# Altium integrated library Altium_WE-XTAL (rev25b).IntLib: 324 symbols (part 1 of 6)
Pins are listed as number, name and electrical type; pins without a type are passive.

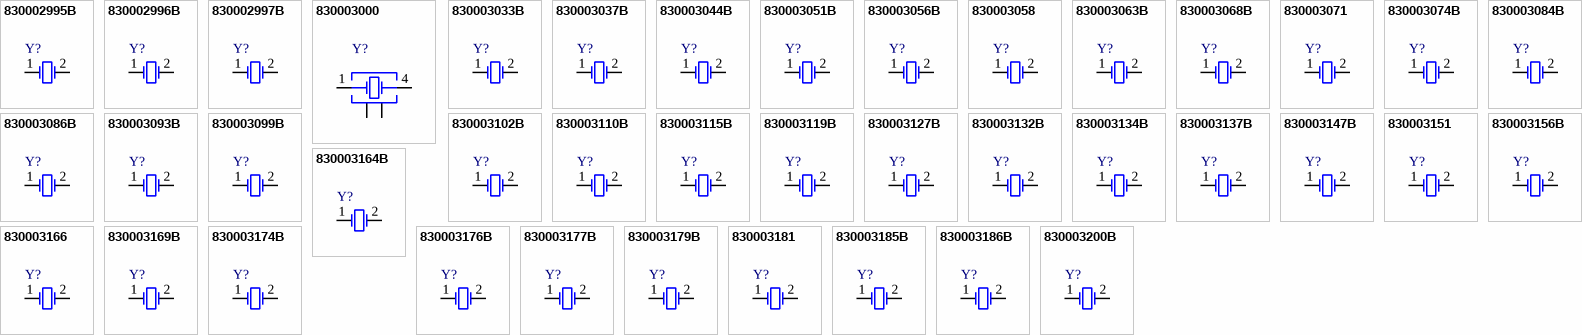
[diagram p0: symbols 830002995B to 830003200B]

## 830002995B
designator Y?, comment 32.768kHz  (value not drawn)
WE-XTAL Watch Crystal, WATCH, 32.768kHz, +/-20ppm; Manufacturer Part Number: 830002995B; Manufacturer: Wurth Elektronik; Load Capacitance: 12.5pF; Category: Crystals; Match Code: WE-XTAL; ComponentLink1Description: Website Link; ComponentLink1URL: https://www.we-online.com/redexpert/article/830002995B?ad; ComponentLink2Description: Datasheet Link; ComponentLink2URL: https://www.we-online.com/redexpert/spec/830002995B?ad; Mount: Through Hole; Min Operating Temperature: -40°C; Max Operating Temperature: 85°C; Packaging: Bulk; Case/Size Code: WATCH; Height: 8.2mm; Diameter: 3mm; Application: Real Time Clock; Frequency: 32.768kHz; Frequency Tolerance: +/-20ppm
footprint WE-XTAL_WATCH_D3H8.2
pins: 1 OSC1, 2 OSC2

## 830002996B
designator Y?, comment 32.768kHz  (value not drawn)
WE-XTAL Watch Crystal, WATCH, 32.768kHz, +/-15ppm; Manufacturer Part Number: 830002996B; Manufacturer: Wurth Elektronik; Load Capacitance: 12.5pF; Category: Crystals; Match Code: WE-XTAL; ComponentLink1Description: Website Link; ComponentLink1URL: https://www.we-online.com/redexpert/article/830002996B?ad; ComponentLink2Description: Datasheet Link; ComponentLink2URL: https://www.we-online.com/redexpert/spec/830002996B?ad; Mount: Through Hole; Min Operating Temperature: -40°C; Max Operating Temperature: 85°C; Packaging: Bulk; Case/Size Code: WATCH; Height: 8.2mm; Diameter: 3mm; Application: Real Time Clock; Frequency: 32.768kHz; Frequency Tolerance: +/-15ppm
footprint WE-XTAL_WATCH_D3H8.2
pins: 1 OSC1, 2 OSC2

## 830002997B
designator Y?, comment 32.768kHz  (value not drawn)
WE-XTAL Watch Crystal, WATCH, 32.768kHz, +/-20ppm; Manufacturer Part Number: 830002997B; Manufacturer: Wurth Elektronik; Load Capacitance: 12.5pF; Category: Crystals; Match Code: WE-XTAL; ComponentLink1Description: Website Link; ComponentLink1URL: https://www.we-online.com/redexpert/article/830002997B?ad; ComponentLink2Description: Datasheet Link; ComponentLink2URL: https://www.we-online.com/redexpert/spec/830002997B?ad; Mount: Through Hole; Min Operating Temperature: -40°C; Max Operating Temperature: 85°C; Packaging: Bulk; Case/Size Code: WATCH; Height: 6.2mm; Diameter: 2mm; Application: Real Time Clock; Frequency: 32.768kHz; Frequency Tolerance: +/-20ppm
footprint WE-XTAL_WATCH_D2H6.2
pins: 1 OSC1, 2 OSC2

## 830003000
designator Y?, comment 32.768kHz  (value not drawn)
WE-XTAL Watch Crystal, 85SMX, 32.768kHz, +/-20ppm; Manufacturer Part Number: 830003000; Manufacturer: Wurth Elektronik; Load Capacitance: 12.5pF; Category: Crystals; Match Code: WE-XTAL; ComponentLink1Description: Website Link; ComponentLink1URL: https://www.we-online.com/redexpert/article/830003000?ad; ComponentLink2Description: Datasheet Link; ComponentLink2URL: https://www.we-online.com/redexpert/spec/830003000?ad; Mount: Surface Mount; Min Operating Temperature: -40°C; Max Operating Temperature: 85°C; Packaging: Tape and Reel; Case/Size Code: 85SMX; Length: 8.7mm; Width: 3.7mm; Height: 2.5mm; Application: Real Time Clock; Frequency: 32.768kHz; Frequency Tolerance: +/-20ppm
footprint WE-XTAL_85SMX
pins: 1 Crystal, 2 GND, 3 GND, 4 Crystal

## 830003033B
designator Y?, comment 1.8432MHz  (value not drawn)
WE-XTAL Quartz Crystal, HC49, 1.8432MHz, +/-20ppm; Manufacturer Part Number: 830003033B; Manufacturer: Wurth Elektronik; Frequency Stability: 50ppm; Load Capacitance: 30pF; Category: Crystals; Match Code: WE-XTAL; ComponentLink1Description: Website Link; ComponentLink1URL: https://www.we-online.com/redexpert/article/830003033B?ad; ComponentLink2Description: Datasheet Link; ComponentLink2URL: https://www.we-online.com/redexpert/spec/830003033B?ad; Mount: Through Hole; Min Operating Temperature: -10°C; Max Operating Temperature: 60°C; Packaging: Bulk; Case/Size Code: HC49; Length: 11.05mm; Width: 4.7mm; Height: 13.49mm; Application: Processor, UART; Frequency: 1.8432MHz; Frequency Tolerance: +/-20ppm
footprint WE-XTAL_HC49
pins: 1 OSC1, 2 OSC2

## 830003037B
designator Y?, comment 2MHz  (value not drawn)
WE-XTAL Quartz Crystal, HC49, 2MHz, +/-50ppm; Manufacturer Part Number: 830003037B; Manufacturer: Wurth Elektronik; Frequency Stability: 100ppm; Load Capacitance: 20pF; Category: Crystals; Match Code: WE-XTAL; ComponentLink1Description: Website Link; ComponentLink1URL: https://www.we-online.com/redexpert/article/830003037B?ad; ComponentLink2Description: Datasheet Link; ComponentLink2URL: https://www.we-online.com/redexpert/spec/830003037B?ad; Mount: Through Hole; Min Operating Temperature: 0°C; Max Operating Temperature: 50°C; Packaging: Bulk; Case/Size Code: HC49; Length: 11.05mm; Width: 4.7mm; Height: 13.49mm; Application: Processor; Frequency: 2MHz; Frequency Tolerance: +/-50ppm
footprint WE-XTAL_HC49
pins: 1 OSC1, 2 OSC2

## 830003044B
designator Y?, comment 2.4576MHz  (value not drawn)
WE-XTAL Quartz Crystal, HC49, 2.4576MHz, +/-20ppm; Manufacturer Part Number: 830003044B; Manufacturer: Wurth Elektronik; Frequency Stability: 50ppm; Load Capacitance: 30pF; Category: Crystals; Match Code: WE-XTAL; ComponentLink1Description: Website Link; ComponentLink1URL: https://www.we-online.com/redexpert/article/830003044B?ad; ComponentLink2Description: Datasheet Link; ComponentLink2URL: https://www.we-online.com/redexpert/spec/830003044B?ad; Mount: Through Hole; Min Operating Temperature: -10°C; Max Operating Temperature: 60°C; Packaging: Bulk; Case/Size Code: HC49; Length: 11.05mm; Width: 4.7mm; Height: 13.49mm; Application: UART; Frequency: 2.4576MHz; Frequency Tolerance: +/-20ppm
footprint WE-XTAL_HC49
pins: 1 OSC1, 2 OSC2

## 830003051B
designator Y?, comment 3.2768MHz  (value not drawn)
WE-XTAL Quartz Crystal, HC49, 3.2768MHz, +/-20ppm; Manufacturer Part Number: 830003051B; Manufacturer: Wurth Elektronik; Frequency Stability: 30ppm; Load Capacitance: 12pF; Category: Crystals; Match Code: WE-XTAL; ComponentLink1Description: Website Link; ComponentLink1URL: https://www.we-online.com/redexpert/article/830003051B?ad; ComponentLink2Description: Datasheet Link; ComponentLink2URL: https://www.we-online.com/redexpert/spec/830003051B?ad; Mount: Through Hole; Min Operating Temperature: -10°C; Max Operating Temperature: 60°C; Packaging: Bulk; Case/Size Code: HC49; Length: 11.05mm; Width: 4.7mm; Height: 13.49mm; Application: Processor; Frequency: 3.2768MHz; Frequency Tolerance: +/-20ppm
footprint WE-XTAL_HC49
pins: 1 OSC1, 2 OSC2

## 830003056B
designator Y?, comment 3.579545MHz  (value not drawn)
WE-XTAL Quartz Crystal, HC49, 3.579545MHz, +/-20ppm; Manufacturer Part Number: 830003056B; Manufacturer: Wurth Elektronik; Frequency Stability: 50ppm; Load Capacitance: 20pF; Category: Crystals; Match Code: WE-XTAL; ComponentLink1Description: Website Link; ComponentLink1URL: https://www.we-online.com/redexpert/article/830003056B?ad; ComponentLink2Description: Datasheet Link; ComponentLink2URL: https://www.we-online.com/redexpert/spec/830003056B?ad; Mount: Through Hole; Min Operating Temperature: -10°C; Max Operating Temperature: 60°C; Packaging: Bulk; Case/Size Code: HC49; Length: 11.05mm; Width: 4.7mm; Height: 13.49mm; Application: Processor; Frequency: 3.579545MHz; Frequency Tolerance: +/-20ppm
footprint WE-XTAL_HC49
pins: 1 OSC1, 2 OSC2

## 830003058
designator Y?, comment 3.579545MHz  (value not drawn)
WE-XTAL Quartz Crystal, HC49/4HSMX, 3.579545MHz, +/-30ppm; Manufacturer Part Number: 830003058; Manufacturer: Wurth Elektronik; Frequency Stability: 50ppm; Load Capacitance: 16pF; Category: Crystals; Match Code: WE-XTAL; ComponentLink1Description: Website Link; ComponentLink1URL: https://www.we-online.com/redexpert/article/830003058?ad; ComponentLink2Description: Datasheet Link; ComponentLink2URL: https://www.we-online.com/redexpert/spec/830003058?ad; Mount: Surface Mount; Min Operating Temperature: -10°C; Max Operating Temperature: 60°C; Packaging: Tape and Reel; Case/Size Code: HC49/4HSMX; Length: 12.4mm; Width: 4.7mm; Height: 4.5mm; Application: Processor; Frequency: 3.579545MHz; Frequency Tolerance: +/-30ppm
footprint WE-XTAL_HC49/4HSMX
pins: 1 OSC1, 2 OSC2

## 830003063B
designator Y?, comment 3.579545MHz  (value not drawn)
WE-XTAL Quartz Crystal, HC49/4H, 3.579545MHz, +/-30ppm; Manufacturer Part Number: 830003063B; Manufacturer: Wurth Elektronik; Frequency Stability: 50ppm; Load Capacitance: 20pF; Category: Crystals; Match Code: WE-XTAL; ComponentLink1Description: Website Link; ComponentLink1URL: https://www.we-online.com/redexpert/article/830003063B?ad; ComponentLink2Description: Datasheet Link; ComponentLink2URL: https://www.we-online.com/redexpert/spec/830003063B?ad; Mount: Through Hole; Min Operating Temperature: -20°C; Max Operating Temperature: 70°C; Packaging: Bulk; Case/Size Code: HC49/4H; Length: 11.35mm; Width: 4.85mm; Height: 4mm; Application: Processor; Frequency: 3.579545MHz; Frequency Tolerance: +/-30ppm
footprint WE-XTAL_HC49/4H
pins: 1 OSC1, 2 OSC2

## 830003068B
designator Y?, comment 4MHz  (value not drawn)
WE-XTAL Quartz Crystal, HC49, 4MHz, +/-20ppm; Manufacturer Part Number: 830003068B; Manufacturer: Wurth Elektronik; Frequency Stability: 50ppm; Load Capacitance: 30pF; Category: Crystals; Match Code: WE-XTAL; ComponentLink1Description: Website Link; ComponentLink1URL: https://www.we-online.com/redexpert/article/830003068B?ad; ComponentLink2Description: Datasheet Link; ComponentLink2URL: https://www.we-online.com/redexpert/spec/830003068B?ad; Mount: Through Hole; Min Operating Temperature: -10°C; Max Operating Temperature: 60°C; Packaging: Bulk; Case/Size Code: HC49; Length: 11.05mm; Width: 4.7mm; Height: 13.49mm; Application: CAN, Processor; Frequency: 4MHz; Frequency Tolerance: +/-20ppm
footprint WE-XTAL_HC49
pins: 1 OSC1, 2 OSC2

## 830003071
designator Y?, comment 4MHz  (value not drawn)
WE-XTAL Quartz Crystal, HC49/4HSMX, 4MHz, +/-30ppm; Manufacturer Part Number: 830003071; Manufacturer: Wurth Elektronik; Frequency Stability: 50ppm; Load Capacitance: 16pF; Category: Crystals; Match Code: WE-XTAL; ComponentLink1Description: Website Link; ComponentLink1URL: https://www.we-online.com/redexpert/article/830003071?ad; ComponentLink2Description: Datasheet Link; ComponentLink2URL: https://www.we-online.com/redexpert/spec/830003071?ad; Mount: Surface Mount; Min Operating Temperature: -10°C; Max Operating Temperature: 60°C; Packaging: Tape and Reel; Case/Size Code: HC49/4HSMX; Length: 12.4mm; Width: 4.7mm; Height: 4.5mm; Application: CAN, Processor; Frequency: 4MHz; Frequency Tolerance: +/-30ppm
footprint WE-XTAL_HC49/4HSMX
pins: 1 OSC1, 2 OSC2

## 830003074B
designator Y?, comment 4MHz  (value not drawn)
WE-XTAL Quartz Crystal, HC49/4H, 4MHz, +/-20ppm; Manufacturer Part Number: 830003074B; Manufacturer: Wurth Elektronik; Frequency Stability: 50ppm; Load Capacitance: 30pF; Category: Crystals; Match Code: WE-XTAL; ComponentLink1Description: Website Link; ComponentLink1URL: https://www.we-online.com/redexpert/article/830003074B?ad; ComponentLink2Description: Datasheet Link; ComponentLink2URL: https://www.we-online.com/redexpert/spec/830003074B?ad; Mount: Through Hole; Min Operating Temperature: -10°C; Max Operating Temperature: 60°C; Packaging: Bulk; Case/Size Code: HC49/4H; Length: 11.35mm; Width: 4.85mm; Height: 4mm; Application: CAN, Processor; Frequency: 4MHz; Frequency Tolerance: +/-20ppm
footprint WE-XTAL_HC49/4H
pins: 1 OSC1, 2 OSC2

## 830003084B
designator Y?, comment 4.096MHz  (value not drawn)
WE-XTAL Quartz Crystal, HC49/4H, 4.096MHz, +/-30ppm; Manufacturer Part Number: 830003084B; Manufacturer: Wurth Elektronik; Frequency Stability: 50ppm; Load Capacitance: 30pF; Category: Crystals; Match Code: WE-XTAL; ComponentLink1Description: Website Link; ComponentLink1URL: https://www.we-online.com/redexpert/article/830003084B?ad; ComponentLink2Description: Datasheet Link; ComponentLink2URL: https://www.we-online.com/redexpert/spec/830003084B?ad; Mount: Through Hole; Min Operating Temperature: -10°C; Max Operating Temperature: 60°C; Packaging: Bulk; Case/Size Code: HC49/4H; Length: 11.35mm; Width: 4.85mm; Height: 4mm; Application: Processor; Frequency: 4.096MHz; Frequency Tolerance: +/-30ppm
footprint WE-XTAL_HC49/4H
pins: 1 OSC1, 2 OSC2

## 830003086B
designator Y?, comment 4.194304MHz  (value not drawn)
WE-XTAL Quartz Crystal, HC49, 4.194304MHz, +/-20ppm; Manufacturer Part Number: 830003086B; Manufacturer: Wurth Elektronik; Frequency Stability: 30ppm; Load Capacitance: 12pF; Category: Crystals; Match Code: WE-XTAL; ComponentLink1Description: Website Link; ComponentLink1URL: https://www.we-online.com/redexpert/article/830003086B?ad; ComponentLink2Description: Datasheet Link; ComponentLink2URL: https://www.we-online.com/redexpert/spec/830003086B?ad; Mount: Through Hole; Min Operating Temperature: -10°C; Max Operating Temperature: 60°C; Packaging: Bulk; Case/Size Code: HC49; Length: 11.05mm; Width: 4.7mm; Height: 13.49mm; Application: Real Time Clock; Frequency: 4.194304MHz; Frequency Tolerance: +/-20ppm
footprint WE-XTAL_HC49
pins: 1 OSC1, 2 OSC2

## 830003093B
designator Y?, comment 4.194304MHz  (value not drawn)
WE-XTAL Quartz Crystal, HC49/4H, 4.194304MHz, +/-30ppm; Manufacturer Part Number: 830003093B; Manufacturer: Wurth Elektronik; Frequency Stability: 50ppm; Load Capacitance: 12pF; Category: Crystals; Match Code: WE-XTAL; ComponentLink1Description: Website Link; ComponentLink1URL: https://www.we-online.com/redexpert/article/830003093B?ad; ComponentLink2Description: Datasheet Link; ComponentLink2URL: https://www.we-online.com/redexpert/spec/830003093B?ad; Mount: Through Hole; Min Operating Temperature: -10°C; Max Operating Temperature: 60°C; Packaging: Bulk; Case/Size Code: HC49/4H; Length: 11.35mm; Width: 4.85mm; Height: 4mm; Application: Real Time Clock; Frequency: 4.194304MHz; Frequency Tolerance: +/-30ppm
footprint WE-XTAL_HC49/4H
pins: 1 OSC1, 2 OSC2

## 830003099B
designator Y?, comment 4.433619MHz  (value not drawn)
WE-XTAL Quartz Crystal, HC49, 4.433619MHz, +/-20ppm; Manufacturer Part Number: 830003099B; Manufacturer: Wurth Elektronik; Frequency Stability: 30ppm; Load Capacitance: 20pF; Category: Crystals; Match Code: WE-XTAL; ComponentLink1Description: Website Link; ComponentLink1URL: https://www.we-online.com/redexpert/article/830003099B?ad; ComponentLink2Description: Datasheet Link; ComponentLink2URL: https://www.we-online.com/redexpert/spec/830003099B?ad; Mount: Through Hole; Min Operating Temperature: -10°C; Max Operating Temperature: 60°C; Packaging: Bulk; Case/Size Code: HC49; Length: 11.05mm; Width: 4.7mm; Height: 13.49mm; Application: Processor; Frequency: 4.433619MHz; Frequency Tolerance: +/-20ppm
footprint WE-XTAL_HC49
pins: 1 OSC1, 2 OSC2

## 830003102B
designator Y?, comment 4.433619MHz  (value not drawn)
WE-XTAL Quartz Crystal, HC49/4H, 4.433619MHz, +/-30ppm; Manufacturer Part Number: 830003102B; Manufacturer: Wurth Elektronik; Frequency Stability: 50ppm; Load Capacitance: 20pF; Category: Crystals; Match Code: WE-XTAL; ComponentLink1Description: Website Link; ComponentLink1URL: https://www.we-online.com/redexpert/article/830003102B?ad; ComponentLink2Description: Datasheet Link; ComponentLink2URL: https://www.we-online.com/redexpert/spec/830003102B?ad; Mount: Through Hole; Min Operating Temperature: -10°C; Max Operating Temperature: 60°C; Packaging: Bulk; Case/Size Code: HC49/4H; Length: 11.35mm; Width: 4.85mm; Height: 4mm; Application: Processor; Frequency: 4.433619MHz; Frequency Tolerance: +/-30ppm
footprint WE-XTAL_HC49/4H
pins: 1 OSC1, 2 OSC2

## 830003110B
designator Y?, comment 4.9152MHz  (value not drawn)
WE-XTAL Quartz Crystal, HC49, 4.9152MHz, +/-20ppm; Manufacturer Part Number: 830003110B; Manufacturer: Wurth Elektronik; Frequency Stability: 50ppm; Load Capacitance: 30pF; Category: Crystals; Match Code: WE-XTAL; ComponentLink1Description: Website Link; ComponentLink1URL: https://www.we-online.com/redexpert/article/830003110B?ad; ComponentLink2Description: Datasheet Link; ComponentLink2URL: https://www.we-online.com/redexpert/spec/830003110B?ad; Mount: Through Hole; Min Operating Temperature: -10°C; Max Operating Temperature: 60°C; Packaging: Bulk; Case/Size Code: HC49; Length: 11.05mm; Width: 4.7mm; Height: 13.49mm; Application: UART; Frequency: 4.9152MHz; Frequency Tolerance: +/-20ppm
footprint WE-XTAL_HC49
pins: 1 OSC1, 2 OSC2

## 830003115B
designator Y?, comment 4.9152MHz  (value not drawn)
WE-XTAL Quartz Crystal, HC49/4H, 4.9152MHz, +/-30ppm; Manufacturer Part Number: 830003115B; Manufacturer: Wurth Elektronik; Frequency Stability: 50ppm; Load Capacitance: 30pF; Category: Crystals; Match Code: WE-XTAL; ComponentLink1Description: Website Link; ComponentLink1URL: https://www.we-online.com/redexpert/article/830003115B?ad; ComponentLink2Description: Datasheet Link; ComponentLink2URL: https://www.we-online.com/redexpert/spec/830003115B?ad; Mount: Through Hole; Min Operating Temperature: -20°C; Max Operating Temperature: 70°C; Packaging: Bulk; Case/Size Code: HC49/4H; Length: 11.35mm; Width: 4.85mm; Height: 4mm; Application: UART; Frequency: 4.9152MHz; Frequency Tolerance: +/-30ppm
footprint WE-XTAL_HC49/4H
pins: 1 OSC1, 2 OSC2

## 830003119B
designator Y?, comment 5MHz  (value not drawn)
WE-XTAL Quartz Crystal, HC49/4H, 5MHz, +/-30ppm; Manufacturer Part Number: 830003119B; Manufacturer: Wurth Elektronik; Frequency Stability: 50ppm; Load Capacitance: 30pF; Category: Crystals; Match Code: WE-XTAL; ComponentLink1Description: Website Link; ComponentLink1URL: https://www.we-online.com/redexpert/article/830003119B?ad; ComponentLink2Description: Datasheet Link; ComponentLink2URL: https://www.we-online.com/redexpert/spec/830003119B?ad; Mount: Through Hole; Min Operating Temperature: -10°C; Max Operating Temperature: 60°C; Packaging: Bulk; Case/Size Code: HC49/4H; Length: 11.35mm; Width: 4.85mm; Height: 4mm; Application: Processor; Frequency: 5MHz; Frequency Tolerance: +/-30ppm
footprint WE-XTAL_HC49/4H
pins: 1 OSC1, 2 OSC2

## 830003127B
designator Y?, comment 6MHz  (value not drawn)
WE-XTAL Quartz Crystal, HC49, 6MHz, +/-20ppm; Manufacturer Part Number: 830003127B; Manufacturer: Wurth Elektronik; Frequency Stability: 50ppm; Load Capacitance: 30pF; Category: Crystals; Match Code: WE-XTAL; ComponentLink1Description: Website Link; ComponentLink1URL: https://www.we-online.com/redexpert/article/830003127B?ad; ComponentLink2Description: Datasheet Link; ComponentLink2URL: https://www.we-online.com/redexpert/spec/830003127B?ad; Mount: Through Hole; Min Operating Temperature: -10°C; Max Operating Temperature: 60°C; Packaging: Bulk; Case/Size Code: HC49; Length: 11.05mm; Width: 4.7mm; Height: 13.49mm; Application: Processor, USB; Frequency: 6MHz; Frequency Tolerance: +/-20ppm
footprint WE-XTAL_HC49
pins: 1 OSC1, 2 OSC2

## 830003132B
designator Y?, comment 6MHz  (value not drawn)
WE-XTAL Quartz Crystal, HC49/4H, 6MHz, +/-30ppm; Manufacturer Part Number: 830003132B; Manufacturer: Wurth Elektronik; Frequency Stability: 50ppm; Load Capacitance: 30pF; Category: Crystals; Match Code: WE-XTAL; ComponentLink1Description: Website Link; ComponentLink1URL: https://www.we-online.com/redexpert/article/830003132B?ad; ComponentLink2Description: Datasheet Link; ComponentLink2URL: https://www.we-online.com/redexpert/spec/830003132B?ad; Mount: Through Hole; Min Operating Temperature: -10°C; Max Operating Temperature: 60°C; Packaging: Bulk; Case/Size Code: HC49/4H; Length: 11.35mm; Width: 4.85mm; Height: 4mm; Application: Processor, USB; Frequency: 6MHz; Frequency Tolerance: +/-30ppm
footprint WE-XTAL_HC49/4H
pins: 1 OSC1, 2 OSC2

## 830003134B
designator Y?, comment 6.144MHz  (value not drawn)
WE-XTAL Quartz Crystal, HC49, 6.144MHz, +/-20ppm; Manufacturer Part Number: 830003134B; Manufacturer: Wurth Elektronik; Frequency Stability: 50ppm; Load Capacitance: 30pF; Category: Crystals; Match Code: WE-XTAL; ComponentLink1Description: Website Link; ComponentLink1URL: https://www.we-online.com/redexpert/article/830003134B?ad; ComponentLink2Description: Datasheet Link; ComponentLink2URL: https://www.we-online.com/redexpert/spec/830003134B?ad; Mount: Through Hole; Min Operating Temperature: -10°C; Max Operating Temperature: 60°C; Packaging: Bulk; Case/Size Code: HC49; Length: 11.05mm; Width: 4.7mm; Height: 13.49mm; Application: Audio, UART; Frequency: 6.144MHz; Frequency Tolerance: +/-20ppm
footprint WE-XTAL_HC49
pins: 1 OSC1, 2 OSC2

## 830003137B
designator Y?, comment 6.144MHz  (value not drawn)
WE-XTAL Quartz Crystal, HC49/4H, 6.144MHz, +/-30ppm; Manufacturer Part Number: 830003137B; Manufacturer: Wurth Elektronik; Frequency Stability: 50ppm; Load Capacitance: 30pF; Category: Crystals; Match Code: WE-XTAL; ComponentLink1Description: Website Link; ComponentLink1URL: https://www.we-online.com/redexpert/article/830003137B?ad; ComponentLink2Description: Datasheet Link; ComponentLink2URL: https://www.we-online.com/redexpert/spec/830003137B?ad; Mount: Through Hole; Min Operating Temperature: -10°C; Max Operating Temperature: 60°C; Packaging: Bulk; Case/Size Code: HC49/4H; Length: 11.35mm; Width: 4.85mm; Height: 4mm; Application: Audio, UART; Frequency: 6.144MHz; Frequency Tolerance: +/-30ppm
footprint WE-XTAL_HC49/4H
pins: 1 OSC1, 2 OSC2

## 830003147B
designator Y?, comment 8MHz  (value not drawn)
WE-XTAL Quartz Crystal, HC49, 8MHz, +/-20ppm; Manufacturer Part Number: 830003147B; Manufacturer: Wurth Elektronik; Frequency Stability: 50ppm; Load Capacitance: 30pF; Category: Crystals; Match Code: WE-XTAL; ComponentLink1Description: Website Link; ComponentLink1URL: https://www.we-online.com/redexpert/article/830003147B?ad; ComponentLink2Description: Datasheet Link; ComponentLink2URL: https://www.we-online.com/redexpert/spec/830003147B?ad; Mount: Through Hole; Min Operating Temperature: -10°C; Max Operating Temperature: 60°C; Packaging: Bulk; Case/Size Code: HC49; Length: 11.05mm; Width: 4.7mm; Height: 13.49mm; Application: Processor, UART; Frequency: 8MHz; Frequency Tolerance: +/-20ppm
footprint WE-XTAL_HC49
pins: 1 OSC1, 2 OSC2

## 830003151
designator Y?, comment 8MHz  (value not drawn)
WE-XTAL Quartz Crystal, HC49/4HSMX, 8MHz, +/-30ppm; Manufacturer Part Number: 830003151; Manufacturer: Wurth Elektronik; Frequency Stability: 50ppm; Load Capacitance: 16pF; Category: Crystals; Match Code: WE-XTAL; ComponentLink1Description: Website Link; ComponentLink1URL: https://www.we-online.com/redexpert/article/830003151?ad; ComponentLink2Description: Datasheet Link; ComponentLink2URL: https://www.we-online.com/redexpert/spec/830003151?ad; Mount: Surface Mount; Min Operating Temperature: -10°C; Max Operating Temperature: 60°C; Packaging: Tape and Reel; Case/Size Code: HC49/4HSMX; Length: 12.4mm; Width: 4.7mm; Height: 4.5mm; Application: Processor, UART; Frequency: 8MHz; Frequency Tolerance: +/-30ppm
footprint WE-XTAL_HC49/4HSMX
pins: 1 OSC1, 2 OSC2

## 830003156B
designator Y?, comment 8MHz  (value not drawn)
WE-XTAL Quartz Crystal, HC49/4H, 8MHz, +/-30ppm; Manufacturer Part Number: 830003156B; Manufacturer: Wurth Elektronik; Frequency Stability: 50ppm; Load Capacitance: 30pF; Category: Crystals; Match Code: WE-XTAL; ComponentLink1Description: Website Link; ComponentLink1URL: https://www.we-online.com/redexpert/article/830003156B?ad; ComponentLink2Description: Datasheet Link; ComponentLink2URL: https://www.we-online.com/redexpert/spec/830003156B?ad; Mount: Through Hole; Min Operating Temperature: -20°C; Max Operating Temperature: 70°C; Packaging: Bulk; Case/Size Code: HC49/4H; Length: 11.35mm; Width: 4.85mm; Height: 4mm; Application: Processor, UART; Frequency: 8MHz; Frequency Tolerance: +/-30ppm
footprint WE-XTAL_HC49/4H
pins: 1 OSC1, 2 OSC2

## 830003164B
designator Y?, comment 10MHz  (value not drawn)
WE-XTAL Quartz Crystal, HC49, 10MHz, +/-20ppm; Manufacturer Part Number: 830003164B; Manufacturer: Wurth Elektronik; Frequency Stability: 50ppm; Load Capacitance: 30pF; Category: Crystals; Match Code: WE-XTAL; ComponentLink1Description: Website Link; ComponentLink1URL: https://www.we-online.com/redexpert/article/830003164B?ad; ComponentLink2Description: Datasheet Link; ComponentLink2URL: https://www.we-online.com/redexpert/spec/830003164B?ad; Mount: Through Hole; Min Operating Temperature: -10°C; Max Operating Temperature: 60°C; Packaging: Bulk; Case/Size Code: HC49; Length: 11.05mm; Width: 4.7mm; Height: 13.49mm; Application: Processor, Ethernet; Frequency: 10MHz; Frequency Tolerance: +/-20ppm
footprint WE-XTAL_HC49
pins: 1 OSC1, 2 OSC2

## 830003166
designator Y?, comment 10MHz  (value not drawn)
WE-XTAL Quartz Crystal, HC49/4HSMX, 10MHz, +/-30ppm; Manufacturer Part Number: 830003166; Manufacturer: Wurth Elektronik; Frequency Stability: 50ppm; Load Capacitance: 16pF; Category: Crystals; Match Code: WE-XTAL; ComponentLink1Description: Website Link; ComponentLink1URL: https://www.we-online.com/redexpert/article/830003166?ad; ComponentLink2Description: Datasheet Link; ComponentLink2URL: https://www.we-online.com/redexpert/spec/830003166?ad; Mount: Surface Mount; Min Operating Temperature: -10°C; Max Operating Temperature: 60°C; Packaging: Tape and Reel; Case/Size Code: HC49/4HSMX; Length: 12.4mm; Width: 4.7mm; Height: 4.5mm; Application: Processor, Ethernet; Frequency: 10MHz; Frequency Tolerance: +/-30ppm
footprint WE-XTAL_HC49/4HSMX
pins: 1 OSC1, 2 OSC2

## 830003169B
designator Y?, comment 10MHz  (value not drawn)
WE-XTAL Quartz Crystal, HC49/4H, 10MHz, +/-30ppm; Manufacturer Part Number: 830003169B; Manufacturer: Wurth Elektronik; Frequency Stability: 50ppm; Load Capacitance: 30pF; Category: Crystals; Match Code: WE-XTAL; ComponentLink1Description: Website Link; ComponentLink1URL: https://www.we-online.com/redexpert/article/830003169B?ad; ComponentLink2Description: Datasheet Link; ComponentLink2URL: https://www.we-online.com/redexpert/spec/830003169B?ad; Mount: Through Hole; Min Operating Temperature: -20°C; Max Operating Temperature: 70°C; Packaging: Bulk; Case/Size Code: HC49/4H; Length: 11.35mm; Width: 4.85mm; Height: 4mm; Application: Processor, Ethernet; Frequency: 10MHz; Frequency Tolerance: +/-30ppm
footprint WE-XTAL_HC49/4H
pins: 1 OSC1, 2 OSC2

## 830003174B
designator Y?, comment 18.432MHz  (value not drawn)
WE-XTAL Quartz Crystal, HC49, 18.432MHz, +/-20ppm; Manufacturer Part Number: 830003174B; Manufacturer: Wurth Elektronik; Frequency Stability: 50ppm; Load Capacitance: 0pF; Category: Crystals; Match Code: WE-XTAL; ComponentLink1Description: Website Link; ComponentLink1URL: https://www.we-online.com/redexpert/article/830003174B?ad; ComponentLink2Description: Datasheet Link; ComponentLink2URL: https://www.we-online.com/redexpert/spec/830003174B?ad; Mount: Through Hole; Min Operating Temperature: -10°C; Max Operating Temperature: 60°C; Packaging: Bulk; Case/Size Code: HC49; Length: 11.05mm; Width: 4.7mm; Height: 13.49mm; Application: UART, Audio; Frequency: 18.432MHz; Frequency Tolerance: +/-20ppm
footprint WE-XTAL_HC49
pins: 1 OSC1, 2 OSC2

## 830003176B
designator Y?, comment 18.432MHz  (value not drawn)
WE-XTAL Quartz Crystal, HC49/4H, 18.432MHz, +/-30ppm; Manufacturer Part Number: 830003176B; Manufacturer: Wurth Elektronik; Frequency Stability: 50ppm; Load Capacitance: 30pF; Category: Crystals; Match Code: WE-XTAL; ComponentLink1Description: Website Link; ComponentLink1URL: https://www.we-online.com/redexpert/article/830003176B?ad; ComponentLink2Description: Datasheet Link; ComponentLink2URL: https://www.we-online.com/redexpert/spec/830003176B?ad; Mount: Through Hole; Min Operating Temperature: -20°C; Max Operating Temperature: 70°C; Packaging: Bulk; Case/Size Code: HC49/4H; Length: 11.35mm; Width: 4.85mm; Height: 4mm; Application: UART, Audio; Frequency: 18.432MHz; Frequency Tolerance: +/-30ppm
footprint WE-XTAL_HC49/4H
pins: 1 OSC1, 2 OSC2

## 830003177B
designator Y?, comment 20MHz  (value not drawn)
WE-XTAL Quartz Crystal, HC49, 20MHz, +/-20ppm; Manufacturer Part Number: 830003177B; Manufacturer: Wurth Elektronik; Frequency Stability: 50ppm; Load Capacitance: 30pF; Category: Crystals; Match Code: WE-XTAL; ComponentLink1Description: Website Link; ComponentLink1URL: https://www.we-online.com/redexpert/article/830003177B?ad; ComponentLink2Description: Datasheet Link; ComponentLink2URL: https://www.we-online.com/redexpert/spec/830003177B?ad; Mount: Through Hole; Min Operating Temperature: -10°C; Max Operating Temperature: 60°C; Packaging: Bulk; Case/Size Code: HC49; Length: 11.05mm; Width: 4.7mm; Height: 13.49mm; Application: Processor, CAN, USB, Ethernet, Wi-Fi; Frequency: 20MHz; Frequency Tolerance: +/-20ppm
footprint WE-XTAL_HC49
pins: 1 OSC1, 2 OSC2

## 830003179B
designator Y?, comment 20MHz  (value not drawn)
WE-XTAL Quartz Crystal, HC49, 20MHz, +/-20ppm; Manufacturer Part Number: 830003179B; Manufacturer: Wurth Elektronik; Frequency Stability: 30ppm; Load Capacitance: 0pF; Category: Crystals; Match Code: WE-XTAL; ComponentLink1Description: Website Link; ComponentLink1URL: https://www.we-online.com/redexpert/article/830003179B?ad; ComponentLink2Description: Datasheet Link; ComponentLink2URL: https://www.we-online.com/redexpert/spec/830003179B?ad; Mount: Through Hole; Min Operating Temperature: -10°C; Max Operating Temperature: 60°C; Packaging: Bulk; Case/Size Code: HC49; Length: 11.05mm; Width: 4.7mm; Height: 13.49mm; Application: Processor, CAN, USB, Ethernet, Wi-Fi; Frequency: 20MHz; Frequency Tolerance: +/-20ppm
footprint WE-XTAL_HC49
pins: 1 OSC1, 2 OSC2

## 830003181
designator Y?, comment 20MHz  (value not drawn)
WE-XTAL Quartz Crystal, HC49/4HSMX, 20MHz, +/-30ppm; Manufacturer Part Number: 830003181; Manufacturer: Wurth Elektronik; Frequency Stability: 50ppm; Load Capacitance: 16pF; Category: Crystals; Match Code: WE-XTAL; ComponentLink1Description: Website Link; ComponentLink1URL: https://www.we-online.com/redexpert/article/830003181?ad; ComponentLink2Description: Datasheet Link; ComponentLink2URL: https://www.we-online.com/redexpert/spec/830003181?ad; Mount: Surface Mount; Min Operating Temperature: -10°C; Max Operating Temperature: 60°C; Packaging: Tape and Reel; Case/Size Code: HC49/4HSMX; Length: 12.4mm; Width: 4.7mm; Height: 4.5mm; Application: Processor, CAN, USB, Ethernet, Wi-Fi; Frequency: 20MHz; Frequency Tolerance: +/-30ppm
footprint WE-XTAL_HC49/4HSMX
pins: 1 OSC1, 2 OSC2

## 830003185B
designator Y?, comment 20MHz  (value not drawn)
WE-XTAL Quartz Crystal, HC49/4H, 20MHz, +/-30ppm; Manufacturer Part Number: 830003185B; Manufacturer: Wurth Elektronik; Frequency Stability: 50ppm; Load Capacitance: 12pF; Category: Crystals; Match Code: WE-XTAL; ComponentLink1Description: Website Link; ComponentLink1URL: https://www.we-online.com/redexpert/article/830003185B?ad; ComponentLink2Description: Datasheet Link; ComponentLink2URL: https://www.we-online.com/redexpert/spec/830003185B?ad; Mount: Through Hole; Min Operating Temperature: -20°C; Max Operating Temperature: 70°C; Packaging: Bulk; Case/Size Code: HC49/4H; Length: 11.35mm; Width: 4.85mm; Height: 4mm; Application: Processor, CAN, USB, Ethernet, Wi-Fi; Frequency: 20MHz; Frequency Tolerance: +/-30ppm
footprint WE-XTAL_HC49/4H
pins: 1 OSC1, 2 OSC2

## 830003186B
designator Y?, comment 20MHz  (value not drawn)
WE-XTAL Quartz Crystal, HC49/4H, 20MHz, +/-30ppm; Manufacturer Part Number: 830003186B; Manufacturer: Wurth Elektronik; Frequency Stability: 50ppm; Load Capacitance: 20pF; Category: Crystals; Match Code: WE-XTAL; ComponentLink1Description: Website Link; ComponentLink1URL: https://www.we-online.com/redexpert/article/830003186B?ad; ComponentLink2Description: Datasheet Link; ComponentLink2URL: https://www.we-online.com/redexpert/spec/830003186B?ad; Mount: Through Hole; Min Operating Temperature: -10°C; Max Operating Temperature: 60°C; Packaging: Bulk; Case/Size Code: HC49/4H; Length: 11.35mm; Width: 4.85mm; Height: 4mm; Application: Processor, CAN, USB, Ethernet, Wi-Fi; Frequency: 20MHz; Frequency Tolerance: +/-30ppm
footprint WE-XTAL_HC49/4H
pins: 1 OSC1, 2 OSC2

## 830003200B
designator Y?, comment 14.31818MHz  (value not drawn)
WE-XTAL Quartz Crystal, HC49/4H, 14.31818MHz, +/-30ppm; Manufacturer Part Number: 830003200B; Manufacturer: Wurth Elektronik; Frequency Stability: 50ppm; Load Capacitance: 30pF; Category: Crystals; Match Code: WE-XTAL; ComponentLink1Description: Website Link; ComponentLink1URL: https://www.we-online.com/redexpert/article/830003200B?ad; ComponentLink2Description: Datasheet Link; ComponentLink2URL: https://www.we-online.com/redexpert/spec/830003200B?ad; Mount: Through Hole; Min Operating Temperature: -20°C; Max Operating Temperature: 70°C; Packaging: Bulk; Case/Size Code: HC49/4H; Length: 11.35mm; Width: 4.85mm; Height: 4mm; Application: Processor; Frequency: 14.31818MHz; Frequency Tolerance: +/-30ppm
footprint WE-XTAL_HC49/4H
pins: 1 OSC1, 2 OSC2

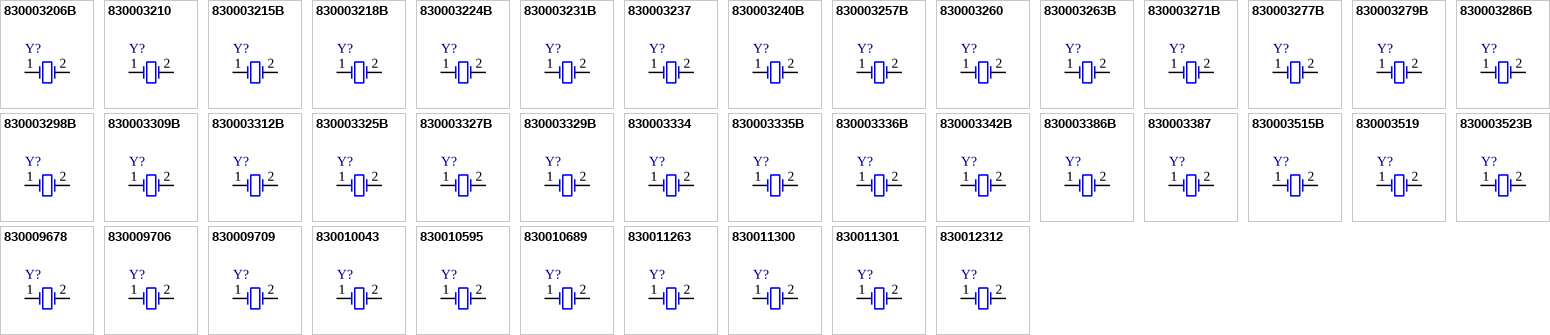
[diagram p1: symbols 830003206B to 830012312]

## 830003206B
designator Y?, comment 12MHz  (value not drawn)
WE-XTAL Quartz Crystal, HC49, 12MHz, +/-20ppm; Manufacturer Part Number: 830003206B; Manufacturer: Wurth Elektronik; Frequency Stability: 30ppm; Load Capacitance: 30pF; Category: Crystals; Match Code: WE-XTAL; ComponentLink1Description: Website Link; ComponentLink1URL: https://www.we-online.com/redexpert/article/830003206B?ad; ComponentLink2Description: Datasheet Link; ComponentLink2URL: https://www.we-online.com/redexpert/spec/830003206B?ad; Mount: Through Hole; Min Operating Temperature: -10°C; Max Operating Temperature: 60°C; Packaging: Bulk; Case/Size Code: HC49; Length: 11.05mm; Width: 4.7mm; Height: 13.49mm; Application: Processor, USB, CAN; Frequency: 12MHz; Frequency Tolerance: +/-20ppm
footprint WE-XTAL_HC49
pins: 1 OSC1, 2 OSC2

## 830003210
designator Y?, comment 12MHz  (value not drawn)
WE-XTAL Quartz Crystal, HC49/4HSMX, 12MHz, +/-30ppm; Manufacturer Part Number: 830003210; Manufacturer: Wurth Elektronik; Frequency Stability: 50ppm; Load Capacitance: 16pF; Category: Crystals; Match Code: WE-XTAL; ComponentLink1Description: Website Link; ComponentLink1URL: https://www.we-online.com/redexpert/article/830003210?ad; ComponentLink2Description: Datasheet Link; ComponentLink2URL: https://www.we-online.com/redexpert/spec/830003210?ad; Mount: Surface Mount; Min Operating Temperature: -10°C; Max Operating Temperature: 60°C; Packaging: Tape and Reel; Case/Size Code: HC49/4HSMX; Length: 12.4mm; Width: 4.7mm; Height: 4.5mm; Application: Processor, USB, CAN; Frequency: 12MHz; Frequency Tolerance: +/-30ppm
footprint WE-XTAL_HC49/4HSMX
pins: 1 OSC1, 2 OSC2

## 830003215B
designator Y?, comment 12MHz  (value not drawn)
WE-XTAL Quartz Crystal, HC49/4H, 12MHz, +/-30ppm; Manufacturer Part Number: 830003215B; Manufacturer: Wurth Elektronik; Frequency Stability: 50ppm; Load Capacitance: 30pF; Category: Crystals; Match Code: WE-XTAL; ComponentLink1Description: Website Link; ComponentLink1URL: https://www.we-online.com/redexpert/article/830003215B?ad; ComponentLink2Description: Datasheet Link; ComponentLink2URL: https://www.we-online.com/redexpert/spec/830003215B?ad; Mount: Through Hole; Min Operating Temperature: -20°C; Max Operating Temperature: 70°C; Packaging: Bulk; Case/Size Code: HC49/4H; Length: 11.35mm; Width: 4.85mm; Height: 4mm; Application: Processor, USB, CAN; Frequency: 12MHz; Frequency Tolerance: +/-30ppm
footprint WE-XTAL_HC49/4H
pins: 1 OSC1, 2 OSC2

## 830003218B
designator Y?, comment 14.7456MHz  (value not drawn)
WE-XTAL Quartz Crystal, HC49, 14.7456MHz, +/-20ppm; Manufacturer Part Number: 830003218B; Manufacturer: Wurth Elektronik; Frequency Stability: 30ppm; Load Capacitance: 30pF; Category: Crystals; Match Code: WE-XTAL; ComponentLink1Description: Website Link; ComponentLink1URL: https://www.we-online.com/redexpert/article/830003218B?ad; ComponentLink2Description: Datasheet Link; ComponentLink2URL: https://www.we-online.com/redexpert/spec/830003218B?ad; Mount: Through Hole; Min Operating Temperature: -10°C; Max Operating Temperature: 60°C; Packaging: Bulk; Case/Size Code: HC49; Length: 11.05mm; Width: 4.7mm; Height: 13.49mm; Application: UART; Frequency: 14.7456MHz; Frequency Tolerance: +/-20ppm
footprint WE-XTAL_HC49
pins: 1 OSC1, 2 OSC2

## 830003224B
designator Y?, comment 14.7456MHz  (value not drawn)
WE-XTAL Quartz Crystal, HC49/4H, 14.7456MHz, +/-30ppm; Manufacturer Part Number: 830003224B; Manufacturer: Wurth Elektronik; Frequency Stability: 50ppm; Load Capacitance: 30pF; Category: Crystals; Match Code: WE-XTAL; ComponentLink1Description: Website Link; ComponentLink1URL: https://www.we-online.com/redexpert/article/830003224B?ad; ComponentLink2Description: Datasheet Link; ComponentLink2URL: https://www.we-online.com/redexpert/spec/830003224B?ad; Mount: Through Hole; Min Operating Temperature: -10°C; Max Operating Temperature: 60°C; Packaging: Bulk; Case/Size Code: HC49/4H; Length: 11.35mm; Width: 4.85mm; Height: 4mm; Application: UART; Frequency: 14.7456MHz; Frequency Tolerance: +/-30ppm
footprint WE-XTAL_HC49/4H
pins: 1 OSC1, 2 OSC2

## 830003231B
designator Y?, comment 16MHz  (value not drawn)
WE-XTAL Quartz Crystal, HC49, 16MHz, +/-20ppm; Manufacturer Part Number: 830003231B; Manufacturer: Wurth Elektronik; Frequency Stability: 30ppm; Load Capacitance: 30pF; Category: Crystals; Match Code: WE-XTAL; ComponentLink1Description: Website Link; ComponentLink1URL: https://www.we-online.com/redexpert/article/830003231B?ad; ComponentLink2Description: Datasheet Link; ComponentLink2URL: https://www.we-online.com/redexpert/spec/830003231B?ad; Mount: Through Hole; Min Operating Temperature: -10°C; Max Operating Temperature: 60°C; Packaging: Bulk; Case/Size Code: HC49; Length: 11.05mm; Width: 4.7mm; Height: 13.49mm; Application: Processor, CAN, Bluetooth; Frequency: 16MHz; Frequency Tolerance: +/-20ppm
footprint WE-XTAL_HC49
pins: 1 OSC1, 2 OSC2

## 830003237
designator Y?, comment 16MHz  (value not drawn)
WE-XTAL Quartz Crystal, HC49/4HSMX, 16MHz, +/-30ppm; Manufacturer Part Number: 830003237; Manufacturer: Wurth Elektronik; Frequency Stability: 50ppm; Load Capacitance: 16pF; Category: Crystals; Match Code: WE-XTAL; ComponentLink1Description: Website Link; ComponentLink1URL: https://www.we-online.com/redexpert/article/830003237?ad; ComponentLink2Description: Datasheet Link; ComponentLink2URL: https://www.we-online.com/redexpert/spec/830003237?ad; Mount: Surface Mount; Min Operating Temperature: -10°C; Max Operating Temperature: 60°C; Packaging: Tape and Reel; Case/Size Code: HC49/4HSMX; Length: 12.4mm; Width: 4.7mm; Height: 4.5mm; Application: Processor, CAN, Bluetooth; Frequency: 16MHz; Frequency Tolerance: +/-30ppm
footprint WE-XTAL_HC49/4HSMX
pins: 1 OSC1, 2 OSC2

## 830003240B
designator Y?, comment 16MHz  (value not drawn)
WE-XTAL Quartz Crystal, HC49/4H, 16MHz, +/-30ppm; Manufacturer Part Number: 830003240B; Manufacturer: Wurth Elektronik; Frequency Stability: 50ppm; Load Capacitance: 30pF; Category: Crystals; Match Code: WE-XTAL; ComponentLink1Description: Website Link; ComponentLink1URL: https://www.we-online.com/redexpert/article/830003240B?ad; ComponentLink2Description: Datasheet Link; ComponentLink2URL: https://www.we-online.com/redexpert/spec/830003240B?ad; Mount: Through Hole; Min Operating Temperature: -20°C; Max Operating Temperature: 70°C; Packaging: Bulk; Case/Size Code: HC49/4H; Length: 11.35mm; Width: 4.85mm; Height: 4mm; Application: Processor, CAN, Bluetooth; Frequency: 16MHz; Frequency Tolerance: +/-30ppm
footprint WE-XTAL_HC49/4H
pins: 1 OSC1, 2 OSC2

## 830003257B
designator Y?, comment 3.6864MHz  (value not drawn)
WE-XTAL Quartz Crystal, HC49, 3.6864MHz, +/-20ppm; Manufacturer Part Number: 830003257B; Manufacturer: Wurth Elektronik; Frequency Stability: 50ppm; Load Capacitance: 30pF; Category: Crystals; Match Code: WE-XTAL; ComponentLink1Description: Website Link; ComponentLink1URL: https://www.we-online.com/redexpert/article/830003257B?ad; ComponentLink2Description: Datasheet Link; ComponentLink2URL: https://www.we-online.com/redexpert/spec/830003257B?ad; Mount: Through Hole; Min Operating Temperature: -10°C; Max Operating Temperature: 60°C; Packaging: Bulk; Case/Size Code: HC49; Length: 11.05mm; Width: 4.7mm; Height: 13.49mm; Application: Processor, UART; Frequency: 3.6864MHz; Frequency Tolerance: +/-20ppm
footprint WE-XTAL_HC49
pins: 1 OSC1, 2 OSC2

## 830003260
designator Y?, comment 3.6864MHz  (value not drawn)
WE-XTAL Quartz Crystal, HC49/4HSMX, 3.6864MHz, +/-30ppm; Manufacturer Part Number: 830003260; Manufacturer: Wurth Elektronik; Frequency Stability: 50ppm; Load Capacitance: 16pF; Category: Crystals; Match Code: WE-XTAL; ComponentLink1Description: Website Link; ComponentLink1URL: https://www.we-online.com/redexpert/article/830003260?ad; ComponentLink2Description: Datasheet Link; ComponentLink2URL: https://www.we-online.com/redexpert/spec/830003260?ad; Mount: Surface Mount; Min Operating Temperature: -10°C; Max Operating Temperature: 60°C; Packaging: Tape and Reel; Case/Size Code: HC49/4HSMX; Length: 12.4mm; Width: 4.7mm; Height: 4.5mm; Application: Processor, UART; Frequency: 3.6864MHz; Frequency Tolerance: +/-30ppm
footprint WE-XTAL_HC49/4HSMX
pins: 1 OSC1, 2 OSC2

## 830003263B
designator Y?, comment 3.6864MHz  (value not drawn)
WE-XTAL Quartz Crystal, HC49/4H, 3.6864MHz, +/-30ppm; Manufacturer Part Number: 830003263B; Manufacturer: Wurth Elektronik; Frequency Stability: 50ppm; Load Capacitance: 30pF; Category: Crystals; Match Code: WE-XTAL; ComponentLink1Description: Website Link; ComponentLink1URL: https://www.we-online.com/redexpert/article/830003263B?ad; ComponentLink2Description: Datasheet Link; ComponentLink2URL: https://www.we-online.com/redexpert/spec/830003263B?ad; Mount: Through Hole; Min Operating Temperature: -20°C; Max Operating Temperature: 70°C; Packaging: Bulk; Case/Size Code: HC49/4H; Length: 11.35mm; Width: 4.85mm; Height: 4mm; Application: Processor, UART; Frequency: 3.6864MHz; Frequency Tolerance: +/-30ppm
footprint WE-XTAL_HC49/4H
pins: 1 OSC1, 2 OSC2

## 830003271B
designator Y?, comment 8.192MHz  (value not drawn)
WE-XTAL Quartz Crystal, HC49/4H, 8.192MHz, +/-30ppm; Manufacturer Part Number: 830003271B; Manufacturer: Wurth Elektronik; Frequency Stability: 50ppm; Load Capacitance: 30pF; Category: Crystals; Match Code: WE-XTAL; ComponentLink1Description: Website Link; ComponentLink1URL: https://www.we-online.com/redexpert/article/830003271B?ad; ComponentLink2Description: Datasheet Link; ComponentLink2URL: https://www.we-online.com/redexpert/spec/830003271B?ad; Mount: Through Hole; Min Operating Temperature: -10°C; Max Operating Temperature: 60°C; Packaging: Bulk; Case/Size Code: HC49/4H; Length: 11.35mm; Width: 4.85mm; Height: 4mm; Application: Audio; Frequency: 8.192MHz; Frequency Tolerance: +/-30ppm
footprint WE-XTAL_HC49/4H
pins: 1 OSC1, 2 OSC2

## 830003277B
designator Y?, comment 9.8304MHz  (value not drawn)
WE-XTAL Quartz Crystal, HC49, 9.8304MHz, +/-20ppm; Manufacturer Part Number: 830003277B; Manufacturer: Wurth Elektronik; Frequency Stability: 50ppm; Load Capacitance: 30pF; Category: Crystals; Match Code: WE-XTAL; ComponentLink1Description: Website Link; ComponentLink1URL: https://www.we-online.com/redexpert/article/830003277B?ad; ComponentLink2Description: Datasheet Link; ComponentLink2URL: https://www.we-online.com/redexpert/spec/830003277B?ad; Mount: Through Hole; Min Operating Temperature: -10°C; Max Operating Temperature: 60°C; Packaging: Bulk; Case/Size Code: HC49; Length: 11.05mm; Width: 4.7mm; Height: 13.49mm; Application: UART; Frequency: 9.8304MHz; Frequency Tolerance: +/-20ppm
footprint WE-XTAL_HC49
pins: 1 OSC1, 2 OSC2

## 830003279B
designator Y?, comment 9.8304MHz  (value not drawn)
WE-XTAL Quartz Crystal, HC49/4H, 9.8304MHz, +/-30ppm; Manufacturer Part Number: 830003279B; Manufacturer: Wurth Elektronik; Frequency Stability: 50ppm; Load Capacitance: 30pF; Category: Crystals; Match Code: WE-XTAL; ComponentLink1Description: Website Link; ComponentLink1URL: https://www.we-online.com/redexpert/article/830003279B?ad; ComponentLink2Description: Datasheet Link; ComponentLink2URL: https://www.we-online.com/redexpert/spec/830003279B?ad; Mount: Through Hole; Min Operating Temperature: -10°C; Max Operating Temperature: 60°C; Packaging: Bulk; Case/Size Code: HC49/4H; Length: 11.35mm; Width: 4.85mm; Height: 4mm; Application: UART; Frequency: 9.8304MHz; Frequency Tolerance: +/-30ppm
footprint WE-XTAL_HC49/4H
pins: 1 OSC1, 2 OSC2

## 830003286B
designator Y?, comment 12.288MHz  (value not drawn)
WE-XTAL Quartz Crystal, HC49/4H, 12.288MHz, +/-30ppm; Manufacturer Part Number: 830003286B; Manufacturer: Wurth Elektronik; Frequency Stability: 50ppm; Load Capacitance: 30pF; Category: Crystals; Match Code: WE-XTAL; ComponentLink1Description: Website Link; ComponentLink1URL: https://www.we-online.com/redexpert/article/830003286B?ad; ComponentLink2Description: Datasheet Link; ComponentLink2URL: https://www.we-online.com/redexpert/spec/830003286B?ad; Mount: Through Hole; Min Operating Temperature: -10°C; Max Operating Temperature: 60°C; Packaging: Bulk; Case/Size Code: HC49/4H; Length: 11.35mm; Width: 4.85mm; Height: 4mm; Application: UART, Audio; Frequency: 12.288MHz; Frequency Tolerance: +/-30ppm
footprint WE-XTAL_HC49/4H
pins: 1 OSC1, 2 OSC2

## 830003298B
designator Y?, comment 17.73447MHz  (value not drawn)
WE-XTAL Quartz Crystal, HC49, 17.73447MHz, +/-20ppm; Manufacturer Part Number: 830003298B; Manufacturer: Wurth Elektronik; Frequency Stability: 30ppm; Load Capacitance: 30pF; Category: Crystals; Match Code: WE-XTAL; ComponentLink1Description: Website Link; ComponentLink1URL: https://www.we-online.com/redexpert/article/830003298B?ad; ComponentLink2Description: Datasheet Link; ComponentLink2URL: https://www.we-online.com/redexpert/spec/830003298B?ad; Mount: Through Hole; Min Operating Temperature: -10°C; Max Operating Temperature: 60°C; Packaging: Bulk; Case/Size Code: HC49; Length: 11.05mm; Width: 4.7mm; Height: 13.49mm; Application: Processor; Frequency: 17.73447MHz; Frequency Tolerance: +/-20ppm
footprint WE-XTAL_HC49
pins: 1 OSC1, 2 OSC2

## 830003309B
designator Y?, comment 19.6608MHz  (value not drawn)
WE-XTAL Quartz Crystal, HC49/4H, 19.6608MHz, +/-30ppm; Manufacturer Part Number: 830003309B; Manufacturer: Wurth Elektronik; Frequency Stability: 50ppm; Load Capacitance: 30pF; Category: Crystals; Match Code: WE-XTAL; ComponentLink1Description: Website Link; ComponentLink1URL: https://www.we-online.com/redexpert/article/830003309B?ad; ComponentLink2Description: Datasheet Link; ComponentLink2URL: https://www.we-online.com/redexpert/spec/830003309B?ad; Mount: Through Hole; Min Operating Temperature: -10°C; Max Operating Temperature: 60°C; Packaging: Bulk; Case/Size Code: HC49/4H; Length: 11.35mm; Width: 4.85mm; Height: 4mm; Application: UART; Frequency: 19.6608MHz; Frequency Tolerance: +/-30ppm
footprint WE-XTAL_HC49/4H
pins: 1 OSC1, 2 OSC2

## 830003312B
designator Y?, comment 22.1184MHz  (value not drawn)
WE-XTAL Quartz Crystal, HC49, 22.1184MHz, +/-20ppm; Manufacturer Part Number: 830003312B; Manufacturer: Wurth Elektronik; Frequency Stability: 50ppm; Load Capacitance: 0pF; Category: Crystals; Match Code: WE-XTAL; ComponentLink1Description: Website Link; ComponentLink1URL: https://www.we-online.com/redexpert/article/830003312B?ad; ComponentLink2Description: Datasheet Link; ComponentLink2URL: https://www.we-online.com/redexpert/spec/830003312B?ad; Mount: Through Hole; Min Operating Temperature: -10°C; Max Operating Temperature: 60°C; Packaging: Bulk; Case/Size Code: HC49; Length: 11.05mm; Width: 4.7mm; Height: 13.49mm; Application: UART; Frequency: 22.1184MHz; Frequency Tolerance: +/-20ppm
footprint WE-XTAL_HC49
pins: 1 OSC1, 2 OSC2

## 830003325B
designator Y?, comment 24MHz  (value not drawn)
WE-XTAL Quartz Crystal, HC49/4H, 24MHz, +/-30ppm; Manufacturer Part Number: 830003325B; Manufacturer: Wurth Elektronik; Frequency Stability: 50ppm; Load Capacitance: 30pF; Category: Crystals; Match Code: WE-XTAL; ComponentLink1Description: Website Link; ComponentLink1URL: https://www.we-online.com/redexpert/article/830003325B?ad; ComponentLink2Description: Datasheet Link; ComponentLink2URL: https://www.we-online.com/redexpert/spec/830003325B?ad; Mount: Through Hole; Min Operating Temperature: -10°C; Max Operating Temperature: 60°C; Packaging: Bulk; Case/Size Code: HC49/4H; Length: 11.35mm; Width: 4.85mm; Height: 4mm; Application: Processor, USB, Bluetooth; Frequency: 24MHz; Frequency Tolerance: +/-30ppm
footprint WE-XTAL_HC49/4H
pins: 1 OSC1, 2 OSC2

## 830003327B
designator Y?, comment 11MHz  (value not drawn)
WE-XTAL Quartz Crystal, HC49, 11MHz, +/-20ppm; Manufacturer Part Number: 830003327B; Manufacturer: Wurth Elektronik; Frequency Stability: 30ppm; Load Capacitance: 30pF; Category: Crystals; Match Code: WE-XTAL; ComponentLink1Description: Website Link; ComponentLink1URL: https://www.we-online.com/redexpert/article/830003327B?ad; ComponentLink2Description: Datasheet Link; ComponentLink2URL: https://www.we-online.com/redexpert/spec/830003327B?ad; Mount: Through Hole; Min Operating Temperature: -10°C; Max Operating Temperature: 60°C; Packaging: Bulk; Case/Size Code: HC49; Length: 11.05mm; Width: 4.7mm; Height: 13.49mm; Application: Processor; Frequency: 11MHz; Frequency Tolerance: +/-20ppm
footprint WE-XTAL_HC49
pins: 1 OSC1, 2 OSC2